# EAGLE library part TPS1HTC30AQPWPRQ1 (library TPS1HTC30AQPWPRQ1)
Power Switch ICs - Power Distribution Automotive, 60-V, 6-A, 30-mO, one-channel smart high-side switch with adjustable current limit 14-HTSSOP -40 to 125 Source: Datasheet <https://www.ti.com/lit/ds/symlink/tps1htc30-q1.pdf?ts=1723072122521>
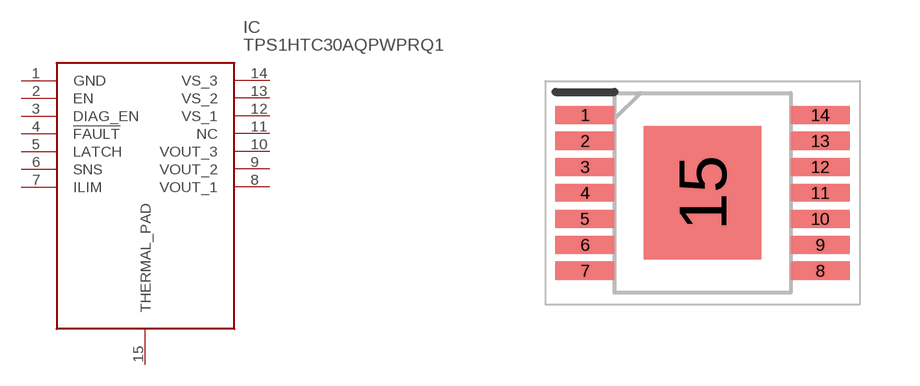
[diagram p0: symbol with the pads of SOP65P640X120-15N; footprint SOP65P640X120-15N]

Designator prefix IC

## TPS1HTC30AQPWPRQ1 (Description: Power Switch ICs - Power Distribution Automotive, 60-V, 6-A, 30-mO, one-channel smart high-side switch with adjustable current limit 14-HTSSOP -40 to 125; Height: 1.2mm; Manufacturer_Name: Texas Instruments; Manufacturer_Part_Number: TPS1HTC30AQPWPRQ1; Mouser_Part_Number: 595-TPS1HTC30AQPWPQ1; Mouser_Price-Stock: https://www.mouser.co.uk/ProductDetail/Texas-Instruments/TPS1HTC30AQPWPRQ1?qs=ST9lo4GX8V3KvUd2Q%2FnDqA%3D%3D)  [SOP65P640X120-15N]
1  GND  pwr
2  EN  in
3  DIAG_EN  in
4  !FAULT  out
5  LATCH  in
6  SNS  out
7  ILIM  out
8  VOUT_1  pwr
9  VOUT_2  pwr
10  VOUT_3  pwr
11  NC  nc
12  VS_1  pwr
13  VS_2  pwr
14  VS_3  pwr
15  THERMAL_PAD

## Footprint SOP65P640X120-15N (pad centres in mm)
PowerPAD TSSOP
smd 1.475 x 0.45: 1 -2.938,1.95; 2 -2.938,1.3; 3 -2.938,0.65; 4 -2.938,0; 5 -2.938,-0.65; 6 -2.938,-1.3; 7 -2.938,-1.95; 8 2.938,-1.95; 9 2.938,-1.3; 10 2.938,-0.65; 11 2.938,0; 12 2.938,0.65; 13 2.938,1.3; 14 2.938,1.95
smd 2.94 x 3.34: 15 0,0